# Altium footprint library 3SWO-CT-32.768.PcbLib: 1 footprints
Each footprint in its own frame and in the unit in brackets; x right, y up, seen from the top. Pads: shape width x height; smd on the part's side, far side on the other; paste and mask are expansions set on the pad; w line width, h text height; cw(c..) or ccw(c..) is an arc to the next point about the centre after c.
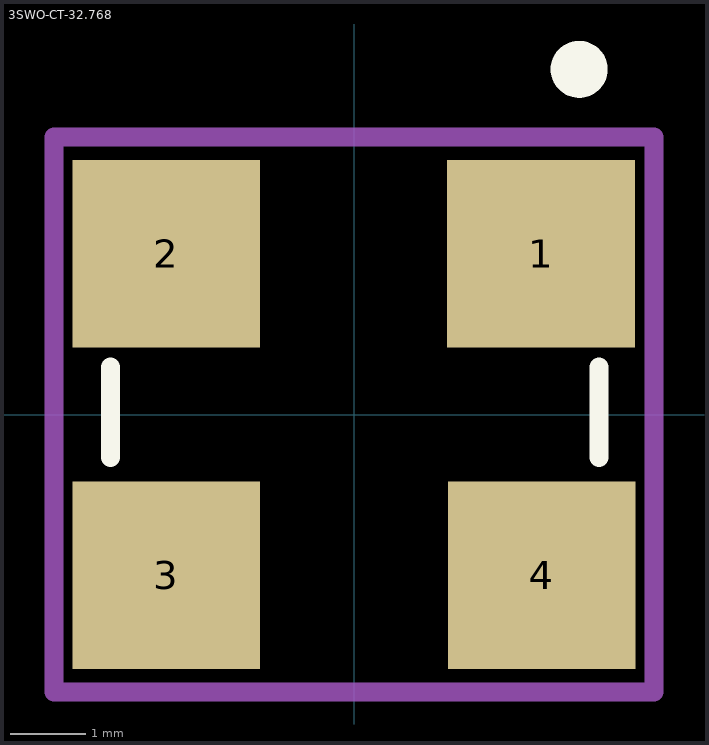
[diagram p0: the footprint, top view; thin cyan lines are the x and y axes]

## 3SWO-CT-32.768 [mm]
pads (4):
  rect 2.5x2.5 smd: 1(2.492,2.14) 2(-2.5,2.14) 3(-2.5,-2.14) 4(2.5,-2.14)
Top Overlay:
  circle w0.4: c3,4.6 r0.18
  lines w0.254: -3.247,-0.57 -3.247,0.63 ; 3.262,-0.57 3.262,0.63
Mechanical 15:
  lines w0.254: -4,-3.7 -4,3.7 4,3.7 4,-3.7 -4,-3.7
3D body "ECS-3951C-018.STEP": height 1.85, standoff 0.05, extent -3.5,-2.5 3.5,2.5